# EAGLE library part LSM330DLC (library r_cubed)
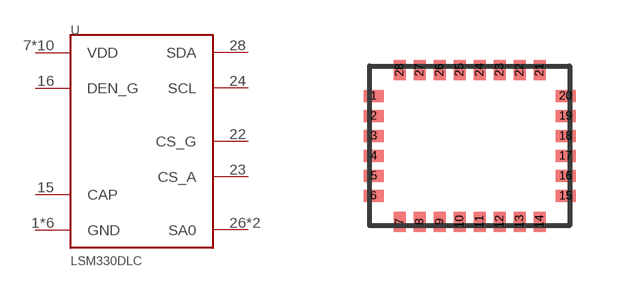
[diagram p4: symbol with the pads of LGA-28; footprint LGA-28]

Designator prefix -

## LSM330DLC  [LGA-28]
1  GND
2  GND
3  GND
4  GND
5  GND
6  GND
7  VDD
8  VDD
9  VDD
10  VDD
11  VDD
12  VDD
13  VDD
14  VDD
15  CAP
16  DEN_G
21  VDD
22  CS_G
23  CS_A
24  SCL
25  VDD
26  SA0
27  SA0
28  SDA

## Footprint LGA-28 (pad centres in mm)
smd 0.5 x 0.3: 1 -2.4,1.25; 2 -2.4,0.75; 3 -2.4,0.25; 4 -2.4,-0.25; 5 -2.4,-0.75; 6 -2.4,-1.25; 15 2.4,-1.25; 16 2.4,-0.75; 17 2.4,-0.25; 18 2.4,0.25; 19 2.4,0.75; 20 2.4,1.25
smd 0.3 x 0.5: 7 -1.75,-1.9; 8 -1.25,-1.9; 9 -0.75,-1.9; 10 -0.25,-1.9; 11 0.25,-1.9; 12 0.75,-1.9; 13 1.25,-1.9; 14 1.75,-1.9; 21 1.75,1.9; 22 1.25,1.9; 23 0.75,1.9; 24 0.25,1.9; 25 -0.25,1.9; 26 -0.75,1.9; 27 -1.25,1.9; 28 -1.75,1.9